# Altium footprint library 互感器.PcbLib: 1 footprints
Each footprint in its own frame and in the unit in brackets; x right, y up, seen from the top. Pads: shape width x height; smd on the part's side, far side on the other; paste and mask are expansions set on the pad; w line width, h text height; cw(c..) or ccw(c..) is an arc to the next point about the centre after c.
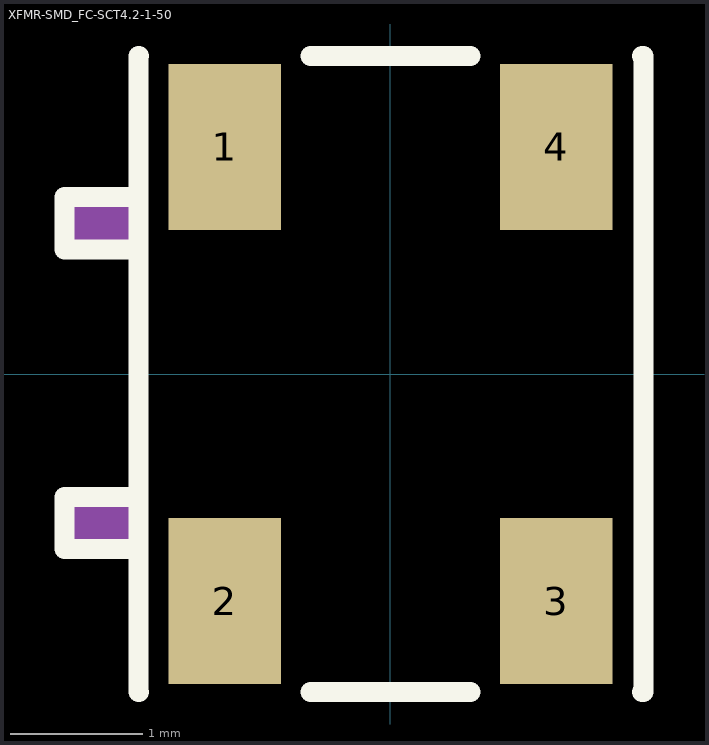
[diagram p0: the footprint, top view; thin cyan lines are the x and y axes]

## XFMR-SMD_FC-SCT4.2-1-50 [mm]
pads (4):
  rect 0.85x1.25 smd: 1(-1.25,1.712) 2(-1.25,-1.712) 3(1.25,-1.712) 4(1.25,1.712)
Top Overlay:
  lines w0.15: -1.9,0.94 -2.46,0.94 -2.46,1.334 -1.9,1.334 ; -1.899,-1.32 -2.459,-1.32 -2.459,-0.926 -1.899,-0.926 ; -1.897,-2.4 -1.9,-2.4 -1.9,2.4 -1.897,2.4 ; -0.603,-2.4 0.603,-2.4 ; -0.603,2.4 0.603,2.4 ; 1.897,-2.4 1.91,-2.4 1.91,2.4 1.897,2.4
Mechanical 6:
  region: -2.459,-0.926 -1.899,-0.926 -1.899,-1.33 -2.449,-1.33 -2.459,-1.32
  region: -2.46,1.334 -1.9,1.334 -1.9,0.93 -2.45,0.93 -2.46,0.94